# Altium schematic symbol library Accelerometer.SchLib: 1 symbol
Pins are listed as number, name and electrical type; pins without a type are passive.

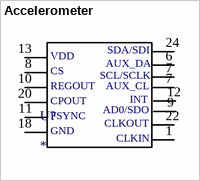
[diagram p0: symbol Accelerometer]

## Accelerometer
designator U?
footprint Accelerometer (PQFN, 24-Leads, Body 4.00x4.00mm, Pitch 0.50mm, Thermal Pad 2.70x2.60mm, IPC Medium Density)
pins: 1, 6, 7, 7, 8, 9, 10, 11, 12, 13, 18, 20, 22, 24
text: SDA/SDI; VDD; AUX_DA; CS; SCL/SCLK; REGOUT; AUX_CL; CPOUT; INT; AD0/SDO; FSYNC; CLKOUT; GND; CLKIN